# EAGLE library part ATMEGA644P (library sj_mcu)
ATmega644P MCU - 64 KB FLASH, 4 KB SRAM, 2 KB EEPROM
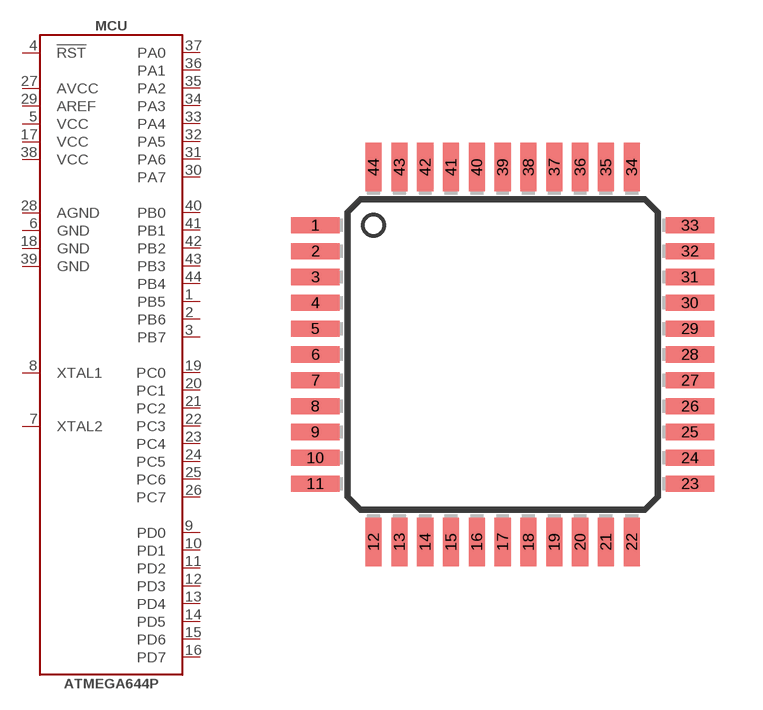
[diagram p3: symbol with the pads of TQFP44; footprint TQFP44]

Designator prefix MCU

## ATMEGA644P-20AU  [TQFP44]
1  PB5
2  PB6
3  PB7
4  !RST  pas
5  VCC  pwr
6  GND  pwr
7  XTAL2
8  XTAL1
9  PD0
10  PD1
11  PD2
12  PD3
13  PD4
14  PD5
15  PD6
16  PD7
17  VCC  pwr
18  GND  pwr
19  PC0  out
20  PC1  out
21  PC2  out
22  PC3  out
23  PC4  out
24  PC5  out
25  PC6  out
26  PC7  out
27  AVCC  pas
28  AGND  pas
29  AREF  pas
30  PA7
31  PA6
32  PA5
33  PA4
34  PA3
35  PA2
36  PA1
37  PA0
38  VCC  pwr
39  GND  pwr
40  PB0
41  PB1
42  PB2
43  PB3
44  PB4

## Footprint TQFP44 (pad centres in mm)
44 Pin Thin Plasic Quad Flat Package - Grid 0.8 mm
smd 1.5 x 0.5: 1 -5.8,4; 2 -5.8,3.2; 3 -5.8,2.4; 4 -5.8,1.6; 5 -5.8,0.8; 6 -5.8,0; 7 -5.8,-0.8; 8 -5.8,-1.6; 9 -5.8,-2.4; 10 -5.8,-3.2; 11 -5.8,-4; 23 5.8,-4; 24 5.8,-3.2; 25 5.8,-2.4; 26 5.8,-1.6; 27 5.8,-0.8; 28 5.8,0; 29 5.8,0.8; 30 5.8,1.6; 31 5.8,2.4; 32 5.8,3.2; 33 5.8,4
smd 0.5 x 1.5: 12 -4,-5.8; 13 -3.2,-5.8; 14 -2.4,-5.8; 15 -1.6,-5.8; 16 -0.8,-5.8; 17 0,-5.8; 18 0.8,-5.8; 19 1.6,-5.8; 20 2.4,-5.8; 21 3.2,-5.8; 22 4,-5.8; 34 4,5.8; 35 3.2,5.8; 36 2.4,5.8; 37 1.6,5.8; 38 0.8,5.8; 39 0,5.8; 40 -0.8,5.8; 41 -1.6,5.8; 42 -2.4,5.8; 43 -3.2,5.8; 44 -4,5.8